# Altium schematic symbol library MS IMP Library.SchLib: 375 symbols (part 8 of 9)
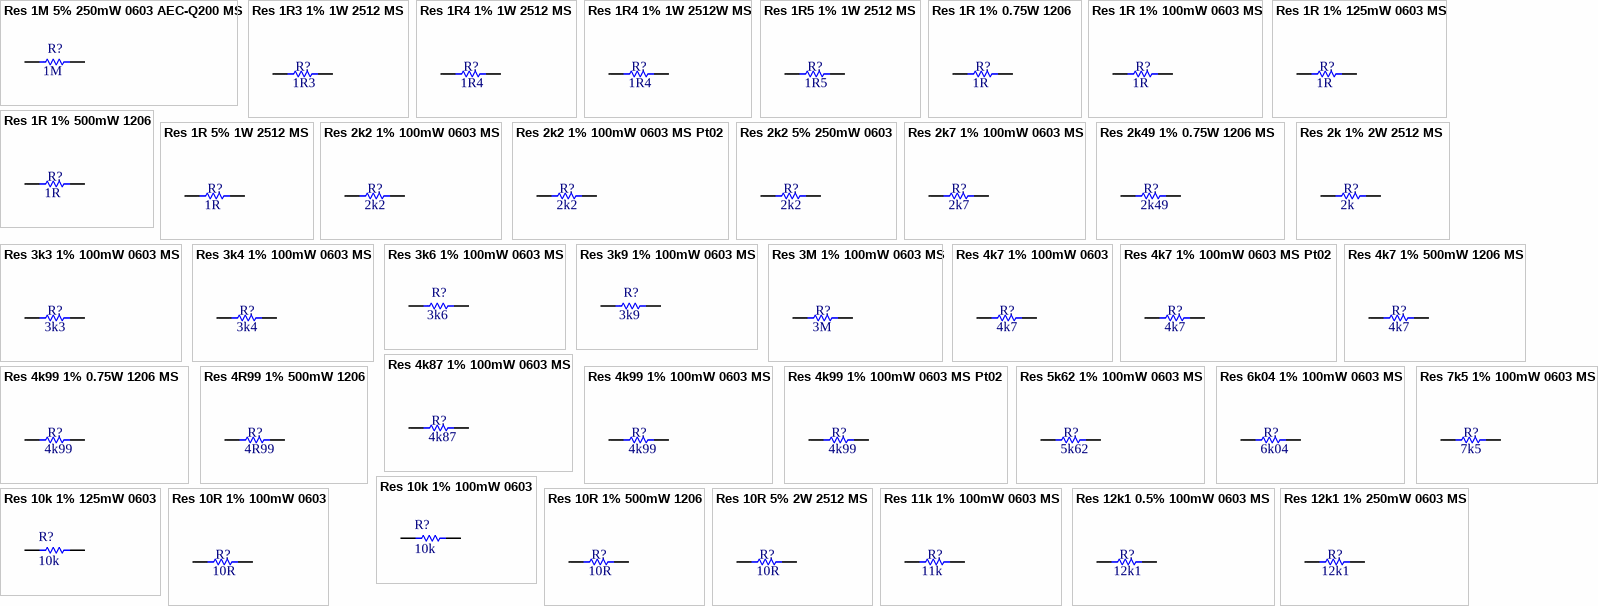
[diagram p29: symbols Res 1M 5% 250mW 0603 AEC-Q200 MS to Res 12k1 1% 250mW 0603 MS]

## Res 4k99 1% 100mW 0603 MS Pt02
designator R?, comment Resistance: 4k99  (hidden comment: Resistor)
Resistor 4k99 1% 100mW 0603; Manufacturer: YAGEO; Manufacturer Part Number: AC0603FR-134K99L; Temperature Coefficient: ±10ppm/°C; Production Status: Active; Distributor: Mouser; Distributor Part Number: 603-AC0603FR-134K99L; Last Revision Date: 16.11.2021; Temperature Range: -55°C ~ +155°C; Mounting: SMD; ComponentLink1Description: Datasheet; ComponentLink1URL: https://eu.mouser.com/datasheet/2/447/PYu_AC_51_RoHS_L_7-1714230.pdf; ComponentLink2Description: Distributor; ComponentLink2URL: https://eu.mouser.com/ProductDetail/YAGEO/AC0603FR-134K99L?qs=%2Fha2pyFadujj9sgtHXfPQljLxCLipvZTl%2FQ3ri6QUfSO9Qcma7Xwvw%3D%3D; ComponentLink3Description: Manufacturer; ComponentLink3URL: https://www.yageo.com/en/ProductSearch/PartNumberSearch?part_number=AC0603FR-134K99L; Status: Not Checked; Power Rating: 100mW; Tolerance: ±1%; DB Parameter 1: 4k99; DB Parameter 2: ±1%; DB Parameter 3: 100mW
footprint R0603L 0.45MM MS (Chip Resistor, Body 1.6x0.8mm, IPC High Density)
pins: 1, 2

## Res 4R99 1% 500mW 1206
designator R?, comment Resistance: 4R99  (hidden comment: Resistor)
Resistor 4R99 1% 500mW 1206; Manufacturer: Vishay Dale; Manufacturer Part Number: RCS12064R99FKEA; Temperature Coefficient: ±100ppm/°C; Production Status: Active; Distributor: Digi-Key; Distributor Part Number: 541-10660-1-ND; Last Revision Date: 11.03.2021; Temperature Range: -55°C ~ +155°C; Mounting: SMD; ComponentLink1Description: Datasheet; ComponentLink1URL: https://www.vishay.com/docs/20065/rcse3.pdf; ComponentLink2Description: Distributor; ComponentLink2URL: https://www.digikey.com/en/products/detail/vishay-dale/RCS12064R99FKEA/10059726; ComponentLink3Description: Manufacturer; ComponentLink3URL: https://www.vishay.com/search?searchChoice=part&query=+RCS12064R99FKEA; Status: Not Checked; Power Rating: 500mW; Tolerance: ±1%; DB Parameter 1: 4R99; DB Parameter 2: ±1%; DB Parameter 3: 500mW
footprint 1206 R 0.6mm MS (Ceramic Capacitor 1206 0.55mm)
pins: 1, 2

## Res 5k62 1% 100mW 0603 MS
designator R?, comment Resistance: 5k62  (hidden comment: Resistor)
Resistor 5k62 1% 100mW 0603; Manufacturer: YAGEO; Manufacturer Part Number: AC0603FR-075K62L; Temperature Coefficient: ±100ppm/°C; Production Status: Active; Distributor: Mouser; Distributor Part Number: 603-AC0603FR-075K62L; Last Revision Date: 17.11.2021; Temperature Range: -55°C ~ +155°C; Mounting: SMD; ComponentLink1Description: Datasheet; ComponentLink1URL: https://eu.mouser.com/datasheet/2/447/Yageo_PYu_AC_51_RoHS_L_7_1714230-1874691.pdf; ComponentLink2Description: Distributor; ComponentLink2URL: https://eu.mouser.com/ProductDetail/YAGEO/AC0603FR-075K62L?qs=sGAEpiMZZMtG0KNrPCHnjb7pwTm6OtIubolrOOvCUgw%3D; ComponentLink3Description: Manufacturer; ComponentLink3URL: https://www.yageo.com/en/ProductSearch/PartNumberSearch?part_number=+AC0603FR-075K62L; Status: Not Checked; Power Rating: 100mW; Tolerance: ±1%; DB Parameter 1: 5k62; DB Parameter 2: ±1%; DB Parameter 3: 100mW
footprint R0603L 0.45MM MS (Chip Resistor, Body 1.6x0.8mm, IPC High Density)
pins: 1, 2

## Res 6k04 1% 100mW 0603 MS
designator R?, comment Resistance: 6k04  (hidden comment: Resistor)
Resistor 6k04 1% 100mW 0603; Manufacturer: YAGEO; Manufacturer Part Number: AC0603FR-076K04L; Temperature Coefficient: ±100ppm/°C; Production Status: Active; Distributor: Mouser; Distributor Part Number: 603-AC0603FR-076K04L; Last Revision Date: 09.03.2022; Temperature Range: -55°C ~ +155°C; Mounting: SMD; ComponentLink1Description: Datasheet; ComponentLink1URL: https://www.yageo.com/upload/media/product/productsearch/datasheet/rchip/PYu-AC_51_RoHS_L_8.pdf; ComponentLink2Description: Distributor; ComponentLink2URL: https://eu.mouser.com/ProductDetail/YAGEO/AC0603FR-076K04L?qs=sGAEpiMZZMtlubZbdhIBIK4ZiD9DMvaKlinTRUoDLvU%3D; ComponentLink3Description: Manufacturer; ComponentLink3URL: https://www.yageo.com/en/ProductSearch/PartNumberSearch?part_number=AC0603FR-076K04L; Status: Not Checked; Power Rating: 100mW; Tolerance: ±1%; DB Parameter 1: 6k04; DB Parameter 2: ±1%; DB Parameter 3: 100mW
footprint R0603L 0.45MM MS (Chip Resistor, Body 1.6x0.8mm, IPC High Density)
pins: 1, 2

## Res 7k5 1% 100mW 0603 MS
designator R?, comment Resistance: 7k5  (hidden comment: Resistor)
Resistor 7k5 1% 100mW 0603; Manufacturer: Bourns; Manufacturer Part Number: CR0603-FX-7501ELF; Temperature Coefficient: ±100ppm/°C; Production Status: Active; Distributor: Mouser; Distributor Part Number: 652-CR0603FX-7501ELF; Last Revision Date: 29.11.2021; Temperature Range: -55°C ~ +155°C; Mounting: SMD; ComponentLink1Description: Datasheet; ComponentLink1URL: https://eu.mouser.com/datasheet/2/54/crxxxxx-1858361.pdf; ComponentLink2Description: Distributor; ComponentLink2URL: https://eu.mouser.com/ProductDetail/Bourns/CR0603-FX-7501ELF?qs=sGAEpiMZZMvdGkrng054t%252BRNGJdg958RBdx1OP%252B28X8%3D; ComponentLink3Description: Manufacturer; ComponentLink3URL: https://eu.mouser.com/datasheet/2/54/crxxxxx-1858361.pdf; Status: Not Checked; Power Rating: 100mW; Tolerance: ±1%; DB Parameter 1: 7k5; DB Parameter 2: ±1%; DB Parameter 3: 100mW
footprint R0603L 0.45MM MS (Chip Resistor, Body 1.6x0.8mm, IPC High Density)
pins: 1, 2

## Res 10k 1% 100mW 0603
designator R?, comment Resistance: 10k  (hidden comment: Resistor)
Resistor 10k 1% 100mW 0603; Manufacturer: Yageo; Manufacturer Part Number: RC0603FR-1310KL; Temperature Coefficient: ±100 PPM/°C; Production Status: Active; Distributor: Digi-Key; Distributor Part Number: 13-RC0603FR-1310KLCT-ND; Last Revision Date: 26.07.2021; Temperature Range: -55°C ~ +155°C; Mounting: SMD; ComponentLink1Description: Datasheet; ComponentLink1URL: https://www.yageo.com/upload/media/product/productsearch/datasheet/rchip/PYu-RC_Group_51_RoHS_L_11.pdf; ComponentLink2Description: Distributor; ComponentLink2URL: https://www.digikey.com/en/products/detail/yageo/RC0603FR-1310KL/12756399; ComponentLink3Description: Manufacturer; ComponentLink3URL: https://www.yageo.com/en/ProductSearch/PartNumberSearch?part_number=RC0603FR-1310KL; Status: Not Checked; Power Rating: 100mW; Tolerance: ±1%
footprint R0603L 0.45MM MS (Chip Resistor, Body 1.6x0.8mm, IPC High Density)
pins: 1, 2

## Res 10k 1% 125mW 0603
designator R?, comment Resistance: 10k  (hidden comment: Resistor)
Resistor 10k 1% 125mW 0603; Manufacturer: Vishay / Beyschlag; Manufacturer Part Number: MCT06030C1002FP500; Temperature Coefficient: ±25 PPM/°C; Production Status: Active; Distributor: Mouser; Distributor Part Number: 594-MCT06030C1002FP5; Last Revision Date: 19.10.2020.; Temperature Range: -55°C ~ +125°C; Mounting: SMD; ComponentLink1Description: Datasheet; ComponentLink1URL: https://eu.mouser.com/datasheet/2/427/mcx0x0xpro-1762245.pdf; ComponentLink2Description: Distributor; ComponentLink2URL: https://eu.mouser.com/ProductDetail/Vishay-Beyschlag/MCT06030C1002FP500?qs=Wvg1umJc15zoHgIjwqoGHw%3D%3D; ComponentLink3Description: Manufacturer; ComponentLink3URL: https://www.vishay.com/search?searchChoice=part&query=MCT06030C1002FP500; Status: Not Checked; Power Rating: 125mW; Tolerance: ±1%
footprint R0603L 0.45MM MS (Chip Resistor, Body 1.6x0.8mm, IPC High Density)
pins: 1, 2

## Res 10R 1% 100mW 0603
designator R?, comment Resistance: 10R  (hidden comment: Resistor)
Resistor 10R 1% 100mW 0603; Manufacturer: KOA Speer; Manufacturer Part Number: RK73H1JRTTD10R0F; Temperature Coefficient: ±50ppm/°C; Production Status: Active; Distributor: Mouser; Distributor Part Number: 660-RK73H1JRTTD10R0F; Last Revision Date: 19.10.2020.; Temperature Range: -55°C ~ +155°C; Mounting: SMD; ComponentLink1Description: Datasheet; ComponentLink1URL: https://eu.mouser.com/datasheet/2/219/RK73-RT-268247.pdf; ComponentLink2Description: Distributor; ComponentLink2URL: https://eu.mouser.com/ProductDetail/KOA-Speer/RK73H1JRTTD10R0F?qs=cnTysMw7AibWlVLWalMh6w%3D%3D; ComponentLink3Description: Manufacturer; ComponentLink3URL: http://www.koaspeer.com/products/resistors/general-purpose/rk73h-rt/; Status: Not Checked; Power Rating: 100mW; Tolerance: ±1%; DB Parameter 1: 10R; DB Parameter 2: ±1%; DB Parameter 3: 100mW
footprint R0603L 0.45MM MS (Chip Resistor, Body 1.6x0.8mm, IPC High Density)
pins: 1, 2

## Res 10R 1% 500mW 1206
designator R?, comment Resistance: 10R  (hidden comment: Resistor)
Resistor 10R 1% 500mW 1206; Manufacturer: Stackpole Electronics Inc; Manufacturer Part Number: RNCP1206FTD10R0; Temperature Coefficient: ±100ppm/°C; Production Status: Active; Distributor: Digi-Key; Distributor Part Number: RNCP1206FTD10R0CT-ND; Last Revision Date: 11.03.2021; Temperature Range: -55°C ~ +155°C; Mounting: SMD; ComponentLink1Description: Datasheet; ComponentLink1URL: https://www.seielect.com/Catalog/SEI-RNCP.pdf; ComponentLink2Description: Distributor; ComponentLink2URL: https://www.digikey.com/en/products/detail/stackpole-electronics-inc/RNCP1206FTD10R0/2240304; ComponentLink3Description: Manufacturer; ComponentLink3URL: https://www.seielect.com/Catalog/SEI-RNCP.pdf; Status: Not Checked; Power Rating: 500mW; Tolerance: ±1%; DB Parameter 1: 10R; DB Parameter 2: ±1%; DB Parameter 3: 500mW
footprint 1206 R 0.6mm MS (Ceramic Capacitor 1206 0.55mm)
pins: 1, 2

## Res 10R 5% 2W 2512 MS
designator R?, comment Resistance: 10R  (hidden comment: Resistor)
Resistor 10R 5% 2W 2512 MS; Manufacturer: Yageo; Manufacturer Part Number: SR2512JK-7W10RL; Temperature Coefficient: ±200ppm/°C; Production Status: Active; Distributor: Digi-Key; Distributor Part Number: YAG5928CT-ND; Last Revision Date: 17.03.2021; Temperature Range: -55°C ~ +155°C; Mounting: SMD; ComponentLink1Description: Datasheet; ComponentLink1URL: https://www.yageo.com/upload/media/product/productsearch/datasheet/rchip/PYu-SR_20105_RoHS_L_8.pdf; ComponentLink2Description: Distributor; ComponentLink2URL: https://www.digikey.com/en/products/detail/yageo/SR2512JK-7W10RL/9373197; ComponentLink3Description: Manufacturer; ComponentLink3URL: https://www.yageo.com/upload/media/product/productsearch/datasheet/rchip/PYu-SR_20105_RoHS_L_8.pdf; Status: Not Checked; Power Rating: 2W; Tolerance: ±5%; DB Parameter 1: 10R; DB Parameter 2: ±5%; DB Parameter 3: 2W
footprint 2512 R 0.7mm MS
pins: 1, 2

## Res 11k 1% 100mW 0603 MS
designator R?, comment Resistance: 11k  (hidden comment: Resistor)
Resistor 11k 1% 100mW 0603; Manufacturer: Stackpole Electronics Inc; Manufacturer Part Number: RMCF0603FT11K0; Temperature Coefficient: ±100ppm/°C; Production Status: Active; Distributor: Digi-Key; Distributor Part Number: RMCF0603FT11K0CT-ND; Last Revision Date: 16.08.2021; Temperature Range: -55°C ~ +155°C; Mounting: SMD; ComponentLink1Description: Datasheet; ComponentLink1URL: https://www.seielect.com/catalog/sei-rmcf_rmcp.pdf; ComponentLink2Description: Distributor; ComponentLink2URL: https://www.digikey.com/en/products/detail/stackpole-electronics-inc/RMCF0603FT11K0/1761258; ComponentLink3Description: Manufacturer; ComponentLink3URL: https://www.seielect.com/catalog/sei-rmcf_rmcp.pdf; Status: Not Checked; Power Rating: 100mW; Tolerance: ±1%; DB Parameter 1: 11k; DB Parameter 2: ±1%; DB Parameter 3: 100mW
footprint R0603L 0.45MM MS (Chip Resistor, Body 1.6x0.8mm, IPC High Density)
pins: 1, 2

## Res 12k1 0.5% 100mW 0603 MS
designator R?, comment Resistance: 12k1  (hidden comment: Resistor)
Resistor 12k1 0.5% 100mW 0603; Manufacturer: Panasonic; Manufacturer Part Number: ERJ-3RBD1212V; Temperature Coefficient: ±100ppm/°C; Production Status: Active; Distributor: Mouser; Distributor Part Number: 667-ERJ-3RBD1212V; Last Revision Date: 16.11.2021; Temperature Range: -55°C ~ +155°C; Mounting: SMD; ComponentLink1Description: Datasheet; ComponentLink1URL: https://eu.mouser.com/datasheet/2/315/AOA0000C304-1149620.pdf; ComponentLink2Description: Distributor; ComponentLink2URL: https://eu.mouser.com/ProductDetail/Panasonic/ERJ-3RBD1212V?qs=%2Fha2pyFaduhkNx%252B0ZI5dHcNAj5y90OIIy6Bz1DZwW39leyEE%252Bj2h7Q%3D%3D; ComponentLink3Description: Manufacturer; ComponentLink3URL: https://na.industrial.panasonic.com/products/resistors/smd-chip-resistors/lineup/chip-resistors/series/57494/model/66982; Status: Not Checked; Power Rating: 100mW; Tolerance: ±0.5%; DB Parameter 1: 12k1; DB Parameter 2: ±0.5%; DB Parameter 3: 100mW
footprint R0603L 0.45MM MS (Chip Resistor, Body 1.6x0.8mm, IPC High Density)
pins: 1, 2

## Res 12k1 1% 250mW 0603 MS
designator R?, comment Resistance: 12k1  (hidden comment: Resistor)
Resistor 12k1 1% 250mW 0603; Manufacturer: Panasonic; Manufacturer Part Number: ERJ-PA3F1212V; Temperature Coefficient: ±100ppm/°C; Production Status: Active; Distributor: Mouser; Distributor Part Number: 667-ERJ-PA3F1212V; Last Revision Date: 16.11.2021; Temperature Range: -55°C ~ +155°C; Mounting: SMD; ComponentLink1Description: Datasheet; ComponentLink1URL: https://eu.mouser.com/datasheet/2/315/AOA0000C331-1141874.pdf; ComponentLink2Description: Distributor; ComponentLink2URL: https://eu.mouser.com/ProductDetail/Panasonic/ERJ-PA3F1212V?qs=BzJM0faLVqWaXz%2FBIyf%2FHQ%3D%3D; ComponentLink3Description: Manufacturer; ComponentLink3URL: https://na.industrial.panasonic.com/products/resistors/smd-chip-resistors/lineup/high-power-anti-surge-high-voltage/series/36033/model/43104; Status: Not Checked; Power Rating: 250mW; Tolerance: ±1%; DB Parameter 1: 12k1; DB Parameter 2: ±1%; DB Parameter 3: 250mW
footprint R0603L 0.45MM MS (Chip Resistor, Body 1.6x0.8mm, IPC High Density)
pins: 1, 2

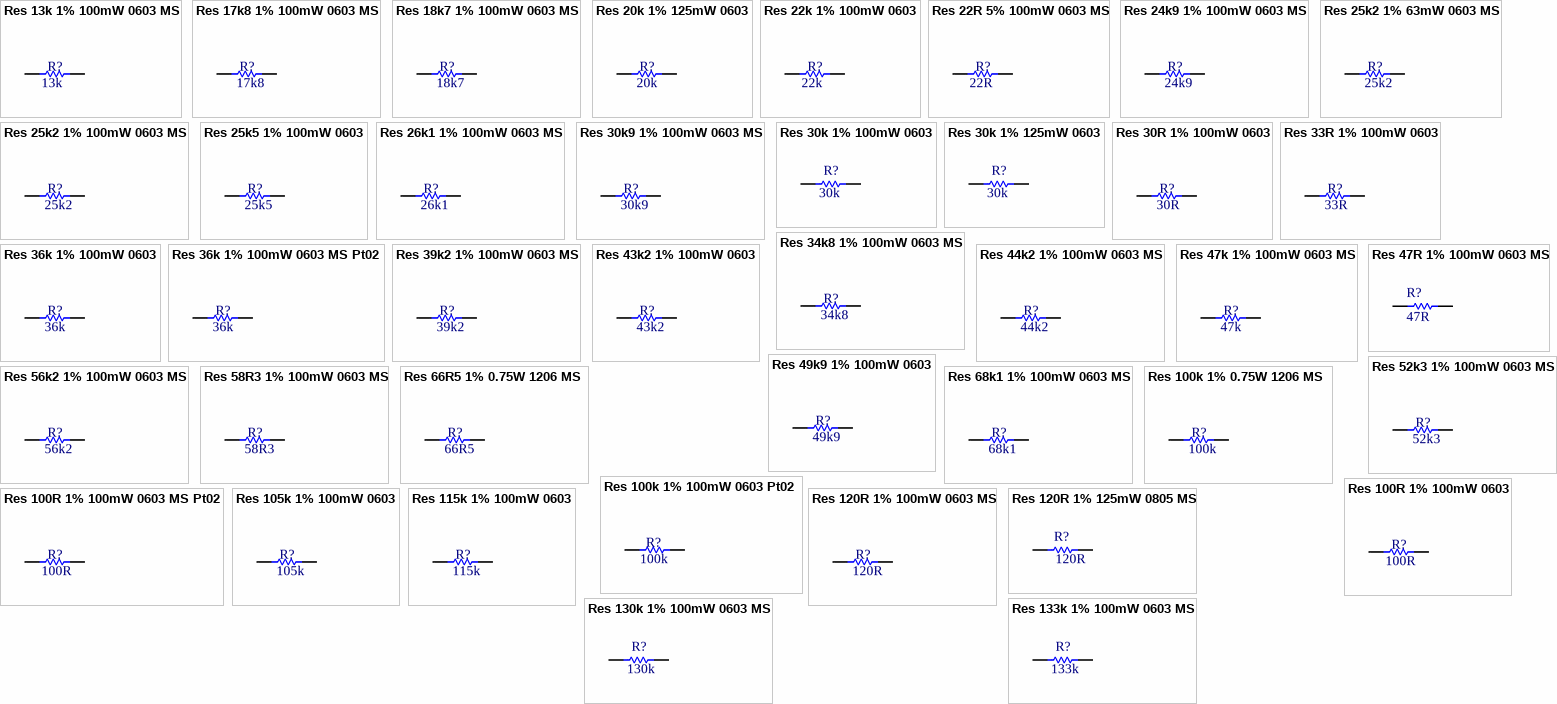
[diagram p21: symbols Res 13k 1% 100mW 0603 MS to Res 133k 1% 100mW 0603 MS]

## Res 13k 1% 100mW 0603 MS
designator R?, comment Resistance: 13k  (hidden comment: Resistor)
Resistor 13k 1% 100mW 0603; Manufacturer: Stackpole Electronics Inc; Manufacturer Part Number: RMCF0603FT13K0; Temperature Coefficient: ±100ppm/°C; Production Status: Active; Distributor: Digi-Key; Distributor Part Number: RMCF0603FT13K0CT-ND; Last Revision Date: 16.06.2021; Temperature Range: -55°C ~ +155°C; Mounting: SMD; ComponentLink1Description: Datasheet; ComponentLink1URL: https://www.seielect.com/Catalog/SEI-RMCF_RMCP.pdf; ComponentLink2Description: Distributor; ComponentLink2URL: https://www.digikey.com/en/products/detail/stackpole-electronics-inc/RMCF0603FT13K0/1761291; ComponentLink3Description: Manufacturer; ComponentLink3URL: https://www.seielect.com/Catalog/SEI-RMCF_RMCP.pdf; Status: Not Checked; Power Rating: 100mW; Tolerance: ±1%; DB Parameter 1: 13k; DB Parameter 2: ±1%; DB Parameter 3: 100mW
footprint R0603L 0.45MM MS (Chip Resistor, Body 1.6x0.8mm, IPC High Density)
pins: 1, 2

## Res 17k8 1% 100mW 0603 MS
designator R?, comment Resistance: 17k8  (hidden comment: Resistor)
Resistor 17k8 1% 100mW 0603; Manufacturer: YAGEO; Manufacturer Part Number: RC0603FR-0717K8L; Temperature Coefficient: ±100ppm/°C; Production Status: Active; Distributor: Digi-Key; Distributor Part Number: 311-17.8KHRCT-ND; Last Revision Date: 08.11.2021; Temperature Range: -55°C ~ +155°C; Mounting: SMD; ComponentLink1Description: Datasheet; ComponentLink1URL: https://www.yageo.com/upload/media/product/productsearch/datasheet/rchip/PYu-RC_Group_51_RoHS_L_11.pdf; ComponentLink2Description: Distributor; ComponentLink2URL: https://www.digikey.com/en/products/detail/yageo/RC0603FR-0717K8L/726983; ComponentLink3Description: Manufacturer; ComponentLink3URL: https://www.yageo.com/en/ProductSearch/PartNumberSearch?part_number=RC0603FR-0717K8L; Status: Not Checked; Power Rating: 100mW; Tolerance: ±1%; DB Parameter 1: 17k8; DB Parameter 2: ±1%; DB Parameter 3: 100mW
footprint R0603L 0.45MM MS (Chip Resistor, Body 1.6x0.8mm, IPC High Density)
pins: 1, 2

## Res 18k7 1% 100mW 0603 MS
designator R?, comment Resistance: 18k7  (hidden comment: Resistor)
Resistor 18k7 1% 100mW 0603; Manufacturer: Panasonic; Manufacturer Part Number: ERJ-3EKF1872V; Temperature Coefficient: ±100ppm/°C; Production Status: Active; Distributor: Mouser; Distributor Part Number: 667-ERJ-3EKF1872V; Last Revision Date: 16.11.2021; Temperature Range: -55°C ~ +155°C; Mounting: SMD; ComponentLink1Description: Datasheet; ComponentLink1URL: https://eu.mouser.com/datasheet/2/315/AOA0000C304-1149620.pdf; ComponentLink2Description: Distributor; ComponentLink2URL: https://eu.mouser.com/ProductDetail/Panasonic/ERJ-3EKF1872V?qs=%2Fha2pyFaduj1bDH1zHognQZ3bncj3JpKbioy8JJi8efwgvHcwvf38A%3D%3D; ComponentLink3Description: Manufacturer; ComponentLink3URL: https://na.industrial.panasonic.com/products/resistors/smd-chip-resistors/lineup/chip-resistors/series/57494/model/66530; Status: Not Checked; Power Rating: 100mW; Tolerance: ±1%; DB Parameter 1: 18k7; DB Parameter 2: ±1%; DB Parameter 3: 100mW
footprint R0603L 0.45MM MS (Chip Resistor, Body 1.6x0.8mm, IPC High Density)
pins: 1, 2

## Res 20k 1% 125mW 0603
designator R?, comment Resistance: 20k  (hidden comment: Resistor)
Resistor 20k 1% 125mW 0603; Manufacturer: Stackpole Electronics Inc; Manufacturer Part Number: RNCP0603FTD20K0; Temperature Coefficient: ±100ppm/°C; Production Status: Active; Distributor: Digi-Key; Distributor Part Number: RNCP0603FTD20K0CT-ND; Last Revision Date: 19.10.2020.; Temperature Range: -55°C ~ +155°C; Mounting: SMD; ComponentLink1Description: Datasheet; ComponentLink1URL: https://www.seielect.com/catalog/sei-rncp.pdf; ComponentLink2Description: Distributor; ComponentLink2URL: https://www.digikey.com/en/products/detail/stackpole-electronics-inc/RNCP0603FTD20K0/2240488; ComponentLink3Description: Manufacturer; ComponentLink3URL: https://www.seielect.com/; Status: Not Checked; Power Rating: 125mW; Tolerance: ±1%; DB Parameter 1: 20k; DB Parameter 2: ±1%; DB Parameter 3: 125mW
footprint R0603L 0.45MM MS (Chip Resistor, Body 1.6x0.8mm, IPC High Density)
pins: 1, 2

## Res 22k 1% 100mW 0603
designator R?, comment Resistance: 22k  (hidden comment: Resistor)
Resistor 22k 1% 100mW 0603; Manufacturer: Vishay Dale; Manufacturer Part Number: CRCW060322K0FKEAC; Temperature Coefficient: ±100ppm/°C; Production Status: Active; Distributor: Digi-Key; Distributor Part Number: 541-4036-1-ND; Last Revision Date: 01.04.2021; Temperature Range: -55°C ~ +155°C; Mounting: SMD; ComponentLink1Description: Datasheet; ComponentLink1URL: https://www.vishay.com/docs/28773/crcwce3.pdf; ComponentLink2Description: Distributor; ComponentLink2URL: https://www.digikey.com/en/products/detail/vishay-dale/CRCW060322K0FKEAC/7928458; ComponentLink3Description: Manufacturer; ComponentLink3URL: https://www.vishay.com/docs/28773/crcwce3.pdf; Status: Not Checked; Power Rating: 100mW; Tolerance: ±1%; DB Parameter 1: 22k; DB Parameter 2: ±1%; DB Parameter 3: 100mW
footprint R0603L 0.45MM MS (Chip Resistor, Body 1.6x0.8mm, IPC High Density)
pins: 1, 2

## Res 22R 5% 100mW 0603 MS
designator R?, comment Resistance: 22R  (hidden comment: Resistor)
Resistor 22R 5% 100mW 0603; Manufacturer: Vishay Dale; Manufacturer Part Number: CRCW060322R0JNEAC; Temperature Coefficient: ±200ppm/°C; Production Status: Active; Distributor: Digi-Key; Distributor Part Number: 541-CRCW060322R0JNEACCT-ND; Last Revision Date: 13.07.2021; Temperature Range: -55°C ~ +155°C; Mounting: SMD; ComponentLink1Description: Datasheet; ComponentLink1URL: https://www.vishay.com/docs/28773/crcwce3.pdf; ComponentLink2Description: Distributor; ComponentLink2URL: https://www.digikey.com/en/products/detail/vishay-dale/CRCW060322R0JNEAC/7925411; ComponentLink3Description: Manufacturer; ComponentLink3URL: https://www.vishay.com/docs/28773/crcwce3.pdf; Status: Not Checked; Power Rating: 100mW; Tolerance: ±5%; DB Parameter 1: 22R; DB Parameter 2: ±5%; DB Parameter 3: 100mW
footprint R0603L 0.45MM MS (Chip Resistor, Body 1.6x0.8mm, IPC High Density)
pins: 1, 2

## Res 24k9 1% 100mW 0603 MS
designator R?, comment Resistance: 24k9  (hidden comment: Resistor)
Resistor 24k9 1% 100mW 0603; Manufacturer: Stackpole Electronics Inc; Manufacturer Part Number: RMCF0603FT24K9; Temperature Coefficient: ±100ppm/°C; Production Status: Active; Distributor: Digi-Key; Distributor Part Number: RMCF0603FT24K9CT-ND; Last Revision Date: 16.06.2021; Temperature Range: -55°C ~ +155°C; Mounting: SMD; ComponentLink1Description: Datasheet; ComponentLink1URL: https://www.seielect.com/Catalog/SEI-RMCF_RMCP.pdf; ComponentLink2Description: Distributor; ComponentLink2URL: https://www.digikey.com/en/products/detail/stackpole-electronics-inc/RMCF0603FT24K9/1760847; ComponentLink3Description: Manufacturer; ComponentLink3URL: https://www.seielect.com/Catalog/SEI-RMCF_RMCP.pdf; Status: Not Checked; Power Rating: 100mW; Tolerance: ±1%; DB Parameter 1: 24k9; DB Parameter 2: ±1%; DB Parameter 3: 100mW
footprint R0603L 0.45MM MS (Chip Resistor, Body 1.6x0.8mm, IPC High Density)
pins: 1, 2

## Res 25k2 1% 63mW 0603 MS
designator R?, comment Resistance: 25k2  (hidden comment: Resistor)
Resistor 25k2 1% 63mW 0603; Manufacturer: KOA Speer; Manufacturer Part Number: RN731JTTD2522F100; Temperature Coefficient: ±100ppm/°C; DB Parameter 3: 100mW; Production Status: Active; Distributor: Mouser; Distributor Part Number: 660-RN731JTD2522F100; Last Revision Date: 12.07.2021; Temperature Range: -55°C ~ +155°C; Mounting: SMD; ComponentLink1Description: Datasheet; ComponentLink1URL: https://eu.mouser.com/datasheet/2/219/KOA_Speer_RN73__1_-1894048.pdf; ComponentLink2Description: Distributor; ComponentLink2URL: https://eu.mouser.com/ProductDetail/KOA-Speer/RN731JTTD2522F100?qs=xOrgyZGSCm9QJ3YZEm%252BPXA%3D%3D; ComponentLink3Description: Manufacturer; ComponentLink3URL: https://www.koaspeer.com/products/resistors/thin-film/rn73/; Status: Not Checked; Power Rating: 63mW; Tolerance: ±1%; DB Parameter 1: 25k2; DB Parameter 2: ±1%
footprint R0603L 0.45MM MS (Chip Resistor, Body 1.6x0.8mm, IPC High Density)
pins: 1, 2

## Res 25k2 1% 100mW 0603 MS
designator R?, comment Resistance: 25k2  (hidden comment: Resistor)
Resistor 25k2 1% 100mW 0603; Manufacturer: YAGEO; Manufacturer Part Number: RT0603DRE0725K2L; Temperature Coefficient: ±50ppm/°C; Tolerance: ±0.05%; Production Status: Active; Distributor: Mouser; Distributor Part Number: 603-RT0603DRE0725K2L; Last Revision Date: 30.07.2021; Temperature Range: -55°C ~ +155°C; Mounting: SMD; ComponentLink1Description: Datasheet; ComponentLink1URL: https://eu.mouser.com/datasheet/2/447/PYu_RT_1_to_0_01_RoHS_L_11-1669912.pdf; ComponentLink2Description: Distributor; ComponentLink2URL: https://eu.mouser.com/ProductDetail/YAGEO/RT0603DRE0725K2L?qs=sGAEpiMZZMtlubZbdhIBIKhKtNYK57piTIv6YfbNfm0%3D; ComponentLink3Description: Manufacturer; ComponentLink3URL: https://www.yageo.com/en/ProductSearch/PartNumberSearch?part_number=RT0603DRE0725K2L; Status: Not Checked; Power Rating: 100mW; DB Parameter 1: 25k2; DB Parameter 2: ±0.05%; DB Parameter 3: 100mW
footprint R0603L 0.45MM MS (Chip Resistor, Body 1.6x0.8mm, IPC High Density)
pins: 1, 2

## Res 25k5 1% 100mW 0603
designator R?, comment Resistance: 25k5  (hidden comment: Resistor)
Resistor 25k5 1% 100mW 0603; Manufacturer: Stackpole Electronics Inc; Manufacturer Part Number: RMCF0603FT25K5; Temperature Coefficient: ±100ppm/°C; Production Status: Active; Distributor: Digi-Key; Distributor Part Number: RMCF0603FT25K5CT-ND; Last Revision Date: 19.10.2020.; Temperature Range: -55°C ~ +155°C; Mounting: SMD; ComponentLink1Description: Datasheet; ComponentLink1URL: https://www.seielect.com/catalog/sei-rmcf_rmcp.pdf; ComponentLink2Description: Distributor; ComponentLink2URL: https://www.digikey.com/en/products/detail/stackpole-electronics-inc/RMCF0603FT25K5/1713829?s=N4IgTCBcDaIEoFkDCAxADANjQZhQFTAFYBpQkAXQF8g; ComponentLink3Description: Manufacturer; ComponentLink3URL: https://www.seielect.com/; Status: Not Checked; Power Rating: 100mW; Tolerance: ±1%; DB Parameter 1: 25k5; DB Parameter 2: ±1%; DB Parameter 3: 100mW
footprint R0603L 0.45MM MS (Chip Resistor, Body 1.6x0.8mm, IPC High Density)
pins: 1, 2

## Res 26k1 1% 100mW 0603 MS
designator R?, comment Resistance: 26k1  (hidden comment: Resistor)
Resistor 26k1 1% 100mW 0603; Manufacturer: Stackpole Electronics Inc; Manufacturer Part Number: RMCF0603FT26K1; Temperature Coefficient: ±100ppm/°C; Production Status: Active; Distributor: Digi-Key; Distributor Part Number: RMCF0603FT26K1CT-ND; Last Revision Date: 26.08.2021; Temperature Range: -55°C ~ +155°C; Mounting: SMD; ComponentLink1Description: Datasheet; ComponentLink1URL: https://www.seielect.com/catalog/sei-rmcf_rmcp.pdf; ComponentLink2Description: Distributor; ComponentLink2URL: https://www.digikey.com/en/products/detail/stackpole-electronics-inc/RMCF0603FT26K1/1760843; ComponentLink3Description: Manufacturer; ComponentLink3URL: https://www.seielect.com/catalog/sei-rmcf_rmcp.pdf; Status: Not Checked; Power Rating: 100mW; Tolerance: ±1%; DB Parameter 1: 26k1; DB Parameter 2: ±1%; DB Parameter 3: 100mW
footprint R0603L 0.45MM MS (Chip Resistor, Body 1.6x0.8mm, IPC High Density)
pins: 1, 2

## Res 30k9 1% 100mW 0603 MS
designator R?, comment Resistance: 30k9  (hidden comment: Resistor)
Resistor 30k9 1% 100mW 0603; Manufacturer: Yageo; Manufacturer Part Number: RC0603FR-0730K9L; Temperature Coefficient: ±100ppm/°C; Production Status: Active; Distributor: Mouser; Distributor Part Number: 603-RC0603FR-0730K9L; Last Revision Date: 16.11.2021; Temperature Range: -55°C ~ +155°C; Mounting: SMD; ComponentLink1Description: Datasheet; ComponentLink1URL: https://eu.mouser.com/datasheet/2/447/Yageo_03_18_2021_PYu_RC_Group_51_RoHS_L_11-2199992.pdf; ComponentLink2Description: Distributor; ComponentLink2URL: https://eu.mouser.com/ProductDetail/YAGEO/RC0603FR-0730K9L?qs=diQw95jMAeMZrPIXfOkmFA%3D%3D; ComponentLink3Description: Manufacturer; ComponentLink3URL: https://www.yageo.com/en/ProductSearch/PartNumberSearch?part_number=RC0603FR-0730K9L&page=1&page_size=10; Status: Not Checked; Power Rating: 100mW; Tolerance: ±1%; DB Parameter 1: 30k9; DB Parameter 2: ±1%; DB Parameter 3: 100mW
footprint R0603L 0.45MM MS (Chip Resistor, Body 1.6x0.8mm, IPC High Density)
pins: 1, 2

## Res 30k 1% 100mW 0603
designator R?, comment Resistance: 30k  (hidden comment: Resistor)
Resistor 30k 1% 100mW 0603; Manufacturer: Panasonic Electronic Components; Manufacturer Part Number: ERJ-3EKF3002V; Temperature Coefficient: ±100 PPM/°C; Production Status: Active; Distributor: Digi-Key; Distributor Part Number: P30.0KHCT-ND; Last Revision Date: 16.08.2021; Temperature Range: -55°C ~ +155°C; Mounting: SMD; ComponentLink1Description: Datasheet; ComponentLink1URL: https://industrial.panasonic.com/cdbs/www-data/pdf/RDA0000/AOA0000C304.pdf; ComponentLink2Description: Distributor; ComponentLink2URL: https://www.digikey.com/en/products/detail/panasonic-electronic-components/ERJ-3EKF3002V/1746367; ComponentLink3Description: Manufacturer; ComponentLink3URL: https://na.industrial.panasonic.com/products/resistors/smd-chip-resistors/lineup/chip-resistors/series/57494/model/66647; Status: Not Checked; Power Rating: 100mW; Tolerance: ±1%; DB Parameter 1: 30k; DB Parameter 2: 100mW; DB Parameter 3: ±1%
footprint R0603L 0.45MM MS (Chip Resistor, Body 1.6x0.8mm, IPC High Density)
pins: 1, 2

## Res 30k 1% 125mW 0603
designator R?, comment Resistance: 30k  (hidden comment: Resistor)
Resistor 30k 1% 125mW 0603; Manufacturer: Vishay / Beyschlag; Manufacturer Part Number: MCT06030C3002FP500; Temperature Coefficient: ±50 PPM/°C; Production Status: Active; Distributor: Digi-Key; Distributor Part Number: 749-1633-1-ND; Last Revision Date: 19.10.2020.; Temperature Range: -55°C ~ +125°C; Mounting: SMD; ComponentLink1Description: Datasheet; ComponentLink1URL: https://www.vishay.com/docs/28705/mcx0x0xpro.pdf; ComponentLink2Description: Distributor; ComponentLink2URL: https://www.digikey.com/en/products/detail/vishay-beyschlag-draloric-bc-components/MCT06030C3002FP500/2800833?s=N4IgTCBcDaILIGEAqAGAbCgzCh2VgDEAFAVhRRAF0BfIA; ComponentLink3Description: Manufacturer; ComponentLink3URL: https://www.vishay.com/search?query=MCT06030C3002FP500&searchChoice=part; Status: Not Checked; Power Rating: 125mW; Tolerance: ±1%; DB Parameter 1: 30k; DB Parameter 2: 125mW; DB Parameter 3: ±1%
footprint R0603L 0.45MM MS (Chip Resistor, Body 1.6x0.8mm, IPC High Density)
pins: 1, 2

## Res 30R 1% 100mW 0603
designator R?, comment Resistance: 30R  (hidden comment: Resistor)
Resistor 30R 1% 100mW 0603; Manufacturer: Vishay/Dale; Manufacturer Part Number: CRCW060330R0FKEA; Temperature Coefficient: 100ppm/°C; Production Status: Active; Distributor: Mouser; Distributor Part Number: 71-CRCW0603-30-E3; Last Revision Date: 12.07.2023.; Temperature Range: -55°C ~ +155°C; Mounting: SMD; ComponentLink1Description: Datasheet; ComponentLink1URL: https://www.vishay.com/docs/20035/dcrcwe3.pdf; ComponentLink2Description: Distributor; ComponentLink2URL: https://eu.mouser.com/ProductDetail/Vishay-Dale/CRCW060330R0FKEA?qs=sGAEpiMZZMtlubZbdhIBIJYjCm%252B0YbVnDASTY5VP7nM%3D; ComponentLink3Description: Manufacturer; ComponentLink3URL: https://www.vishay.com/docs/20035/dcrcwe3.pdf; Status: Not Checked; Power Rating: 100mW; Tolerance: ±1%; DB Parameter 1: 30R; DB Parameter 2: ±1%; DB Parameter 3: 100mW
footprint R0603L 0.45MM MS (Chip Resistor, Body 1.6x0.8mm, IPC High Density)
pins: 1, 2

## Res 33R 1% 100mW 0603
designator R?, comment Resistance: 33R  (hidden comment: Resistor)
Resistor 33R 1% 100mW 0603; Manufacturer: Vishay/Dale; Manufacturer Part Number: CRCW060333R0FKEAC; Temperature Coefficient: 100ppm/°C; Production Status: Active; Distributor: Mouser; Distributor Part Number: 71-CRCW060333R0FKEAC; Last Revision Date: 01.11.2020.; Temperature Range: -55°C ~ +155°C; Mounting: SMD; ComponentLink1Description: Datasheet; ComponentLink1URL: https://eu.mouser.com/datasheet/2/427/crcwce3-1762584.pdf; ComponentLink2Description: Distributor; ComponentLink2URL: https://eu.mouser.com/ProductDetail/Vishay-Dale/CRCW060333R0FKEAC?qs=sGAEpiMZZMtlubZbdhIBIIZe04wfiaJWQ3%2FlfYrlfMk%3D; ComponentLink3Description: Manufacturer; ComponentLink3URL: https://www.vishay.com/search?searchChoice=part&query=CRCW060333R0FKEAC; Status: Not Checked; Power Rating: 100mW; Tolerance: ±1%; DB Parameter 1: 33R; DB Parameter 2: ±1%; DB Parameter 3: 100mW
footprint R0603L 0.45MM MS (Chip Resistor, Body 1.6x0.8mm, IPC High Density)
pins: 1, 2

## Res 34k8 1% 100mW 0603 MS
designator R?, comment Resistance: 34k8  (hidden comment: Resistor)
Resistor 34k8 1% 100mW 0603; Manufacturer: Panasonic; Manufacturer Part Number: ERJ-3EKF3482V; Temperature Coefficient: ±100ppm/°C; Production Status: Active; Distributor: Mouser; Distributor Part Number: 667-ERJ-3EKF3482V; Last Revision Date: 17.11.2021; Temperature Range: -55°C ~ +155°C; Mounting: SMD; ComponentLink1Description: Datasheet; ComponentLink1URL: https://eu.mouser.com/datasheet/2/315/AOA0000C304-1149620.pdf; ComponentLink2Description: Distributor; ComponentLink2URL: https://eu.mouser.com/ProductDetail/Panasonic/ERJ-3EKF3482V?qs=MVjVSMjNRMovR8SjCGcl3g%3D%3D; ComponentLink3Description: Manufacturer; ComponentLink3URL: https://na.industrial.panasonic.com/products/resistors/smd-chip-resistors/lineup/chip-resistors/series/57494/model/66687; Status: Not Checked; Power Rating: 100mW; Tolerance: ±1%; DB Parameter 1: 34k8; DB Parameter 2: ±1%; DB Parameter 3: 100mW
footprint R0603L 0.45MM MS (Chip Resistor, Body 1.6x0.8mm, IPC High Density)
pins: 1, 2

## Res 36k 1% 100mW 0603
designator R?, comment Resistance: 36k  (hidden comment: Resistor)
Resistor 36k 1% 100mW 0603; Manufacturer: Vishay Dale; Manufacturer Part Number: CRCW060336K0FKEA; Temperature Coefficient: ±100ppm/°C; Production Status: Active; Distributor: Digi-Key; Distributor Part Number: 541-36.0KHCT-ND; Last Revision Date: 04.02.2021; Temperature Range: -55°C ~ +155°C; Mounting: SMD; ComponentLink1Description: Datasheet; ComponentLink1URL: https://www.vishay.com/docs/20035/dcrcwe3.pdf; ComponentLink2Description: Distributor; ComponentLink2URL: https://www.digikey.com/en/products/detail/vishay-dale/CRCW060336K0FKEA/1174844; ComponentLink3Description: Manufacturer; ComponentLink3URL: https://www.vishay.com/docs/20035/dcrcwe3.pdf; Status: Not Checked; Power Rating: 100mW; Tolerance: ±1%; DB Parameter 1: 36k; DB Parameter 2: ±1%; DB Parameter 3: 100mW
footprint R0603L 0.45MM MS (Chip Resistor, Body 1.6x0.8mm, IPC High Density)
pins: 1, 2

## Res 36k 1% 100mW 0603 MS Pt02
designator R?, comment Resistance: 36k  (hidden comment: Resistor)
Resistor 36k 1% 100mW 0603; Manufacturer: Yageo; Manufacturer Part Number: RC0603FR-0736KL; Temperature Coefficient: ±100ppm/°C; Production Status: Active; Distributor: Digi-Key; Distributor Part Number: 311-36.0KHRCT-ND; Last Revision Date: 26.07.2021; Temperature Range: -55°C ~ +155°C; Mounting: SMD; ComponentLink1Description: Datasheet; ComponentLink1URL: https://www.yageo.com/upload/media/product/productsearch/datasheet/rchip/PYu-RC_Group_51_RoHS_L_11.pdf; ComponentLink2Description: Distributor; ComponentLink2URL: https://www.digikey.com/en/products/detail/yageo/RC0603FR-0736KL/727179; ComponentLink3Description: Manufacturer; ComponentLink3URL: https://www.yageo.com/en/ProductSearch/PartNumberSearch?part_number=RC0603FR-0736KL; Status: Not Checked; Power Rating: 100mW; Tolerance: ±1%; DB Parameter 1: 36k; DB Parameter 2: ±1%; DB Parameter 3: 100mW
footprint R0603L 0.45MM MS (Chip Resistor, Body 1.6x0.8mm, IPC High Density)
pins: 1, 2

## Res 39k2 1% 100mW 0603 MS
designator R?, comment Resistance: 39k2  (hidden comment: Resistor)
Resistor 39k2 1% 100mW 0603; Manufacturer: Vishay Dale; Manufacturer Part Number: CRCW060339K2FKEB; Temperature Coefficient: ±100ppm/°C; Production Status: Active; Distributor: Digi-Key; Distributor Part Number: 541-CRCW060339K2FKEBCT-ND; Last Revision Date: 07.04.2021; Temperature Range: -55°C ~ +155°C; Mounting: SMD; ComponentLink1Description: Datasheet; ComponentLink1URL: https://www.vishay.com/docs/20035/dcrcwe3.pdf; ComponentLink2Description: Distributor; ComponentLink2URL: https://www.digikey.com/en/products/detail/vishay-dale/CRCW060339K2FKEB/5072274; ComponentLink3Description: Manufacturer; ComponentLink3URL: https://www.vishay.com/docs/20035/dcrcwe3.pdf; Status: Not Checked; Power Rating: 100mW; Tolerance: ±1%; DB Parameter 1: 39k2; DB Parameter 2: ±1%; DB Parameter 3: 100mW
footprint R0603L 0.45MM MS (Chip Resistor, Body 1.6x0.8mm, IPC High Density)
pins: 1, 2

## Res 43k2 1% 100mW 0603
designator R?, comment Resistance: 43k2  (hidden comment: Resistor)
Resistor 43k2 1% 100mW 0603; Manufacturer: Stackpole Electronics Inc; Manufacturer Part Number: RMCF0603FT43K2; Temperature Coefficient: ±50ppm/°C; Production Status: Active; Distributor: Digi-Key; Distributor Part Number: RMCF0603FT43K2CT-ND; Last Revision Date: 07.04.2021; Temperature Range: -55°C ~ +155°C; Mounting: SMD; ComponentLink1Description: Datasheet; ComponentLink1URL: https://www.seielect.com/Catalog/SEI-RMCF_RMCP.pdf; ComponentLink2Description: Distributor; ComponentLink2URL: https://www.digikey.com/en/products/detail/stackpole-electronics-inc/RMCF0603FT43K2/1761153; ComponentLink3Description: Manufacturer; ComponentLink3URL: https://www.seielect.com/Catalog/SEI-RMCF_RMCP.pdf; Status: Not Checked; Power Rating: 100mW; Tolerance: ±1%; DB Parameter 1: 43k2; DB Parameter 2: ±1%; DB Parameter 3: 100mW
footprint R0603L 0.45MM MS (Chip Resistor, Body 1.6x0.8mm, IPC High Density)
pins: 1, 2

## Res 44k2 1% 100mW 0603 MS
designator R?, comment Resistance: 44k2  (hidden comment: Resistor)
Resistor 44k2 1% 100mW 0603; Manufacturer: Yageo; Manufacturer Part Number: RC0603FR-0744K2L; Temperature Coefficient: ±100ppm/°C; Production Status: Active; Distributor: Mouser; Distributor Part Number: 603-RC0603FR-0744K2L; Last Revision Date: 02.12.2021; Temperature Range: -55°C ~ +155°C; Mounting: SMD; ComponentLink1Description: Datasheet; ComponentLink1URL: https://eu.mouser.com/datasheet/2/447/Yageo_03_18_2021_PYu_RC_Group_51_RoHS_L_11-2199992.pdf; ComponentLink2Description: Distributor; ComponentLink2URL: https://eu.mouser.com/ProductDetail/YAGEO/RC0603FR-0744K2L?qs=sGAEpiMZZMtlubZbdhIBIItYu4jZFrq8M4%2FgjtarwUs%3D; ComponentLink3Description: Manufacturer; ComponentLink3URL: https://www.yageo.com/en/ProductSearch/PartNumberSearch?part_number=RC0603FR-0744K2L; Status: Not Checked; Power Rating: 100mW; Tolerance: ±1%; DB Parameter 1: 44k2; DB Parameter 2: ±1%; DB Parameter 3: 100mW
footprint R0603L 0.45MM MS (Chip Resistor, Body 1.6x0.8mm, IPC High Density)
pins: 1, 2

## Res 47k 1% 100mW 0603 MS
designator R?, comment Resistance: 47k  (hidden comment: Resistor)
Resistor 47k 1% 100mW 0603; Manufacturer: Yageo; Manufacturer Part Number: RT0603FRE0747KL; Temperature Coefficient: ±50ppm/°C; Production Status: Active; Distributor: Digi-Key; Distributor Part Number: YAG3355CT-ND; Last Revision Date: 08.06.2021; Temperature Range: -55°C ~ +155°C; Mounting: SMD; ComponentLink1Description: Datasheet; ComponentLink1URL: https://www.yageo.com/upload/media/product/productsearch/datasheet/rchip/PYu-RT_1-to-0.01_RoHS_L_12.pdf; ComponentLink2Description: Distributor; ComponentLink2URL: https://www.digikey.com/en/products/detail/yageo/RT0603FRE0747KL/1075386; ComponentLink3Description: Manufacturer; ComponentLink3URL: https://www.yageo.com/en/ProductSearch/PartNumberSearch?part_number=RT0603FRE0747KL; Status: Not Checked; Power Rating: 100mW; Tolerance: ±1%; DB Parameter 1: 47k; DB Parameter 2: ±1%; DB Parameter 3: 100mW
footprint R0603L 0.45MM MS (Chip Resistor, Body 1.6x0.8mm, IPC High Density)
pins: 1, 2

## Res 47R 1% 100mW 0603 MS
designator R?, comment Resistance: 47R  (hidden comment: Resistor)
Resistor 47R 1% 100mW 0603; Manufacturer: Panasonic Electronic Components; Manufacturer Part Number: ERJ-3EKF47R0V; Temperature Coefficient: ±100 PPM/°C; Production Status: Active; Distributor: Digi-Key; Distributor Part Number: P47.0HCT-ND; Last Revision Date: 26.06.2021; Temperature Range: -55°C ~ +155°C; Mounting: SMD; ComponentLink1Description: Datasheet; ComponentLink1URL: https://industrial.panasonic.com/cdbs/www-data/pdf/RDA0000/AOA0000C304.pdf; ComponentLink2Description: Distributor; ComponentLink2URL: https://www.digikey.com/en/products/detail/panasonic-electronic-components/ERJ-3EKF47R0V/1746425; ComponentLink3Description: Manufacturer; ComponentLink3URL: https://industrial.panasonic.com/ww/site-search?keyword=ERJ-3EKF47R0V; Status: Not Checked; Power Rating: 100mW; Tolerance: ±1%; DB Parameter 1: 47R; DB Parameter 2: 100mW; DB Parameter 3: ±1%
footprint R0603L 0.45MM MS (Chip Resistor, Body 1.6x0.8mm, IPC High Density)
pins: 1, 2

## Res 49k9 1% 100mW 0603
designator R?, comment Resistance: 49k9  (hidden comment: Resistor)
Resistor 49k9 1% 100mW 0603; Manufacturer: Yageo; Manufacturer Part Number: RC0603FR-0749K9L; Temperature Coefficient: ±100ppm/°C; Production Status: Active; Distributor: Digi-Key; Distributor Part Number: 311-49.9KHRCT-ND; Last Revision Date: 28.10.2020; Temperature Range: -55°C ~ +155°C; Mounting: SMD; ComponentLink1Description: Datasheet; ComponentLink1URL: https://www.yageo.com/upload/media/product/productsearch/datasheet/rchip/PYu-RC_Group_51_RoHS_L_11.pdf; ComponentLink2Description: Distributor; ComponentLink2URL: https://www.digikey.com/en/products/detail/yageo/RC0603FR-0749K9L/727265; ComponentLink3Description: Manufacturer; ComponentLink3URL: https://www.yageo.com/en/ProductSearch/PartNumberSearch?part_number=RC0603FR-0749K9L; Status: Not Checked; Power Rating: 100mW; Tolerance: ±1%; DB Parameter 1: 49k9; DB Parameter 2: ±1%; DB Parameter 3: 100mW
footprint R0603L 0.45MM MS (Chip Resistor, Body 1.6x0.8mm, IPC High Density)
pins: 1, 2

## Res 52k3 1% 100mW 0603 MS
designator R?, comment Resistance: 52k3  (hidden comment: Resistor)
Resistor 52k3 1% 100mW 0603; Manufacturer: Panasonic; Manufacturer Part Number: ERJ-3EKF5232V; Temperature Coefficient: ±100ppm/°C; Production Status: Active; Distributor: Mouser; Distributor Part Number: 667-ERJ-3EKF5232V; Last Revision Date: 16.11.2021; Temperature Range: -55°C ~ +155°C; Mounting: SMD; ComponentLink1Description: Datasheet; ComponentLink1URL: https://eu.mouser.com/datasheet/2/315/AOA0000C304-1149620.pdf; ComponentLink2Description: Distributor; ComponentLink2URL: https://eu.mouser.com/ProductDetail/Panasonic/ERJ-3EKF5232V?qs=%2Fha2pyFaduj4VokTTrJ5YcKGAuKOI4DPdYhRYp6anNFW4zlYZOgvUQ%3D%3D; ComponentLink3Description: Manufacturer; ComponentLink3URL: https://na.industrial.panasonic.com/products/resistors/smd-chip-resistors/lineup/chip-resistors/series/57494/model/66795; Status: Not Checked; Power Rating: 100mW; Tolerance: ±1%; DB Parameter 1: 52k3; DB Parameter 2: ±1%; DB Parameter 3: 100mW
footprint R0603L 0.45MM MS (Chip Resistor, Body 1.6x0.8mm, IPC High Density)
pins: 1, 2

## Res 56k2 1% 100mW 0603 MS
designator R?, comment Resistance: 56k2  (hidden comment: Resistor)
Resistor 56k2 1% 100mW 0603; Manufacturer: Panasonic; Manufacturer Part Number: ERJ-3EKF5622V; Temperature Coefficient: ±100ppm/°C; Production Status: Active; Distributor: Mouser; Distributor Part Number: 667-ERJ-3EKF5622V; Last Revision Date: 26.04.2022; Temperature Range: -55°C ~ +155°C; Mounting: SMD; ComponentLink1Description: Datasheet; ComponentLink1URL: https://eu.mouser.com/datasheet/2/315/AOA0000C304-1149620.pdf; ComponentLink2Description: Distributor; ComponentLink2URL: https://eu.mouser.com/ProductDetail/Panasonic/ERJ-3EKF5622V?qs=iBwFsHVUAOcRXfLzBBtG1Q%3D%3D; ComponentLink3Description: Manufacturer; ComponentLink3URL: https://industrial.panasonic.com/sa/products/pt/general-purpose-chip-resistors/models/ERJ3EKF5622V; Status: Not Checked; Power Rating: 100mW; Tolerance: ±1%; DB Parameter 1: 56k2; DB Parameter 2: ±1%; DB Parameter 3: 100mW
footprint R0603L 0.45MM MS (Chip Resistor, Body 1.6x0.8mm, IPC High Density)
pins: 1, 2

## Res 58R3 1% 100mW 0603 MS
designator R?, comment Resistance: 58R3  (hidden comment: Resistor)
Resistor 58R3 1% 100mW 0603; Manufacturer: KOA Speer; Manufacturer Part Number: RN73H1JTTD58R3F25; Temperature Coefficient: ±25ppm/°C; Production Status: Active; Distributor: Mouser; Distributor Part Number: 660-RN73H1JTD58R3F25; Last Revision Date: 15.08.2022; Temperature Range: -55°C ~ +155°C; Mounting: SMD; ComponentLink1Description: Datasheet; ComponentLink1URL: https://eu.mouser.com/datasheet/2/219/RN73H-1843478.pdf; ComponentLink2Description: Distributor; ComponentLink2URL: https://eu.mouser.com/ProductDetail/KOA-Speer/RN73H1JTTD58R3F25?qs=pJKkPLTLvBiTlWGLf%2FdvEQ%3D%3D; ComponentLink3Description: Manufacturer; ComponentLink3URL: https://www.koaspeer.com/products/resistors/thin-film/rn73h/; Status: Not Checked; Power Rating: 100mW; Tolerance: ±1%; DB Parameter 1: 58R3; DB Parameter 2: ±1%; DB Parameter 3: 100mW
footprint R0603L 0.45MM MS (Chip Resistor, Body 1.6x0.8mm, IPC High Density)
pins: 1, 2

## Res 66R5 1% 0.75W 1206 MS
designator R?, comment Resistance: 66R5  (hidden comment: Resistor)
Resistor 66R5 1% 0.75W 1206; Manufacturer: Vishay Dale; Manufacturer Part Number: CRCW120666R5FKEAHP; Temperature Coefficient: ±100ppm/°C; Production Status: Active; Distributor: Digi-Key; Distributor Part Number: 541-66.5UCT-ND; Last Revision Date: 17.06.2021; Temperature Range: -55°C ~ +155°C; Mounting: SMD; ComponentLink1Description: Datasheet; ComponentLink1URL: https://www.vishay.com/docs/20043/crcwhpe3.pdf; ComponentLink2Description: Distributor; ComponentLink2URL: https://www.digikey.com/en/products/detail/vishay-dale/CRCW120666R5FKEAHP/2227626; ComponentLink3Description: Manufacturer; ComponentLink3URL: https://www.vishay.com/docs/20043/crcwhpe3.pdf; Status: Not Checked; Power Rating: 0.75W; Tolerance: ±1%; DB Parameter 1: 66R5; DB Parameter 2: ±1%; DB Parameter 3: 0.75W
footprint 1206 R 0.6mm MS (Ceramic Capacitor 1206 0.55mm)
pins: 1, 2

## Res 68k1 1% 100mW 0603 MS
designator R?, comment Resistance: 68k1  (hidden comment: Resistor)
Resistor 68k1 1% 100mW 0603; Manufacturer: Bourns; Manufacturer Part Number: CR0603-FX-6812ELF; Temperature Coefficient: ±100ppm/°C; Production Status: Active; Distributor: Mouser; Distributor Part Number: 652-CR0603FX-6812ELF; Last Revision Date: 16.11.2021; Temperature Range: -55°C ~ +155°C; Mounting: SMD; ComponentLink1Description: Datasheet; ComponentLink1URL: https://eu.mouser.com/datasheet/2/54/crxxxxx-1858361.pdf; ComponentLink2Description: Distributor; ComponentLink2URL: https://eu.mouser.com/ProductDetail/Bourns/CR0603-FX-6812ELF?qs=%2Fha2pyFadujZ27u%2Fpj3Yk%252BVuZjmTy1iAjNWW%2FyPu%2FBsVu52YE6Ythg%3D%3D; ComponentLink3Description: Manufacturer; ComponentLink3URL: https://eu.mouser.com/datasheet/2/54/crxxxxx-1858361.pdf; Status: Not Checked; Power Rating: 100mW; Tolerance: ±1%; DB Parameter 1: 68k1; DB Parameter 2: ±1%; DB Parameter 3: 100mW
footprint R0603L 0.45MM MS (Chip Resistor, Body 1.6x0.8mm, IPC High Density)
pins: 1, 2

## Res 100k 1% 0.75W 1206 MS
designator R?, comment Resistance: 100k  (hidden comment: Resistor)
Resistor 100k 1% 0.75W 1206; Manufacturer: Bourns; Manufacturer Part Number: CMP1206-FX-1003ELF; Temperature Coefficient: ±100ppm/°C; Production Status: Active; Distributor: Mouser; Distributor Part Number: 652-CMP1206-FX-1003L; Last Revision Date: 13.05.2022; Temperature Range: -55°C ~ +155°C; Mounting: SMD; ComponentLink1Description: Datasheet; ComponentLink1URL: https://eu.mouser.com/datasheet/2/54/Bourns_CMP_Datasheet_05.28.20-1854233.pdf; ComponentLink2Description: Distributor; ComponentLink2URL: https://eu.mouser.com/ProductDetail/Bourns/CMP1206-FX-1003ELF?qs=TiOZkKH1s2S5ctwCkjrozA%3D%3D; ComponentLink3Description: Manufacturer; ComponentLink3URL: https://eu.mouser.com/datasheet/2/54/Bourns_CMP_Datasheet_05.28.20-1854233.pdf; Status: Not Checked; Power Rating: 0.75W; Tolerance: ±1%; DB Parameter 1: 100k; DB Parameter 2: ±1%; DB Parameter 3: 0.75W
footprint 1206 R 0.6mm MS (Ceramic Capacitor 1206 0.55mm)
pins: 1, 2

## Res 100k 1% 100mW 0603 Pt02
designator R?, comment Resistance: 100k  (hidden comment: Resistor)
Resistor 100k 1% 100mW 0603; Manufacturer: Stackpole Electronics Inc; Manufacturer Part Number: RMCF0603FT100K; Temperature Coefficient: ±100ppm/°C; Production Status: Active; Distributor: Digi-Key; Distributor Part Number: RMCF0603FT100KCT-ND; Last Revision Date: 28.10.2020; Temperature Range: -55°C ~ +155°C; Mounting: SMD; ComponentLink1Description: Datasheet; ComponentLink1URL: https://www.seielect.com/catalog/sei-rmcf_rmcp.pdf; ComponentLink2Description: Distributor; ComponentLink2URL: https://www.digikey.com/en/products/detail/stackpole-electronics-inc/RMCF0603FT100K/1761112; ComponentLink3Description: Manufacturer; ComponentLink3URL: https://www.seielect.com/; Status: Not Checked; Power Rating: 100mW; Tolerance: ±1%; DB Parameter 1: 100k; DB Parameter 2: ±1%; DB Parameter 3: 100mW
footprint R0603L 0.45MM MS (Chip Resistor, Body 1.6x0.8mm, IPC High Density)
pins: 1, 2

## Res 100R 1% 100mW 0603
designator R?, comment Resistance: 100R  (hidden comment: Resistor)
Resistor 100R 1% 100mW 0603; Manufacturer: Vishay Dale; Manufacturer Part Number: CRCW0603100RFKEB; Temperature Coefficient: 100ppm/°C; Production Status: Active; Distributor: Digi-Key; Distributor Part Number: 541-CRCW0603100RFKEBCT-ND; Last Revision Date: 01.11.2020.; Temperature Range: -55°C ~ +155°C; Mounting: SMD; ComponentLink1Description: Datasheet; ComponentLink1URL: https://www.vishay.com/docs/20035/dcrcwe3.pdf; ComponentLink2Description: Distributor; ComponentLink2URL: https://www.digikey.com/en/products/detail/vishay-dale/CRCW0603100RFKEB/5070645; ComponentLink3Description: Manufacturer; ComponentLink3URL: https://www.vishay.com/product?docid=20036; Status: Not Checked; Power Rating: 100mW; Tolerance: ±1%; DB Parameter 1: 100R; DB Parameter 2: ±1%; DB Parameter 3: 100mW
footprint R0603L 0.45MM MS (Chip Resistor, Body 1.6x0.8mm, IPC High Density)
pins: 1, 2

## Res 100R 1% 100mW 0603 MS Pt02
designator R?, comment Resistance: 100R  (hidden comment: Resistor)
Resistor 100R 1% 100mW 0603; Manufacturer: Stackpole Electronics Inc; Manufacturer Part Number: RMCF0603FT100R; Temperature Coefficient: 100ppm/°C; Production Status: Active; Distributor: Digi-Key; Distributor Part Number: RMCF0603FT100RCT-ND; Last Revision Date: 26.07.2021; Temperature Range: -55°C ~ +155°C; Mounting: SMD; ComponentLink1Description: Datasheet; ComponentLink1URL: https://www.seielect.com/catalog/sei-rmcf_rmcp.pdf; ComponentLink2Description: Distributor; ComponentLink2URL: https://www.digikey.com/en/products/detail/stackpole-electronics-inc/RMCF0603FT100R/1761113; ComponentLink3Description: Manufacturer; ComponentLink3URL: https://www.seielect.com/catalog/sei-rmcf_rmcp.pdf; Status: Not Checked; Power Rating: 100mW; Tolerance: ±1%; DB Parameter 1: 100R; DB Parameter 2: ±1%; DB Parameter 3: 100mW
footprint R0603L 0.45MM MS (Chip Resistor, Body 1.6x0.8mm, IPC High Density)
pins: 1, 2

## Res 105k 1% 100mW 0603
designator R?, comment Resistance: 105k  (hidden comment: Resistor)
Resistor 105k 1% 100mW 0603; Manufacturer: Panasonic; Manufacturer Part Number: ERJ-3EKF1053V; Temperature Coefficient: ±100ppm/°C; Production Status: Active; Distributor: Mouser; Distributor Part Number: 667-ERJ-3EKF1053V; Last Revision Date: 11.16.2021; Temperature Range: -55°C ~ +155°C; Mounting: SMD; ComponentLink1Description: Datasheet; ComponentLink1URL: https://eu.mouser.com/datasheet/2/315/AOA0000C304-1149620.pdf; ComponentLink2Description: Distributor; ComponentLink2URL: https://eu.mouser.com/ProductDetail/Panasonic/ERJ-3EKF1053V?qs=%2Fha2pyFaduj1bDH1zHognWywlV%252Bfhxn59vdwPsffWraGSXr%252B3q8%252BpA%3D%3D; ComponentLink3Description: Manufacturer; ComponentLink3URL: https://na.industrial.panasonic.com/products/resistors/smd-chip-resistors/lineup/chip-resistors/series/57494/model/66394; Status: Not Checked; Power Rating: 100mW; Tolerance: ±1%; DB Parameter 1: 105k; DB Parameter 2: ±1%; DB Parameter 3: 100mW
footprint R0603L 0.45MM MS (Chip Resistor, Body 1.6x0.8mm, IPC High Density)
pins: 1, 2